# Altium footprint library PO_Mod_PCB_Lib.PcbLib: 1 footprints
Each footprint in its own frame and in the unit in brackets; x right, y up, seen from the top. Pads: shape width x height; smd on the part's side, far side on the other; paste and mask are expansions set on the pad; w line width, h text height; cw(c..) or ccw(c..) is an arc to the next point about the centre after c.
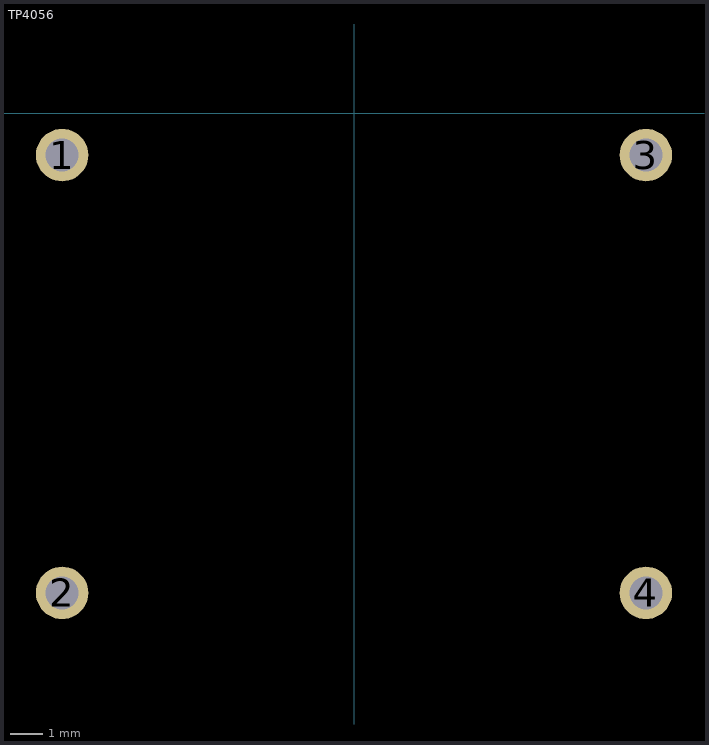
[diagram p0: the footprint, top view; thin cyan lines are the x and y axes]

## TP4056 [mm]
pads (4):
  round 1.6 hole 1: 1(-8.89,-1.27) 2(-8.89,-14.605) 3(8.89,-1.27) 4(8.89,-14.605)
3D body "TP4056 Charger Module.x_b": height 3.72, standoff -0.15, extent -12.7,-16.365 10.881,0.635
3D body: height 1.27, standoff 0, extent -2.54,0 -2.54,0